# Altium schematic symbol library GENERIC_HEADER_2PIN.SchLib: 1 symbol
Pins are listed as number, name and electrical type; pins without a type are passive.

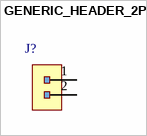
[diagram p0: symbol GENERIC_HEADER_2PIN]

## GENERIC_HEADER_2PIN
designator J?
=Description
pins: 1, 2